# EAGLE library part AD7302BRZ (library 029000100  -  gKEagleLibrary)
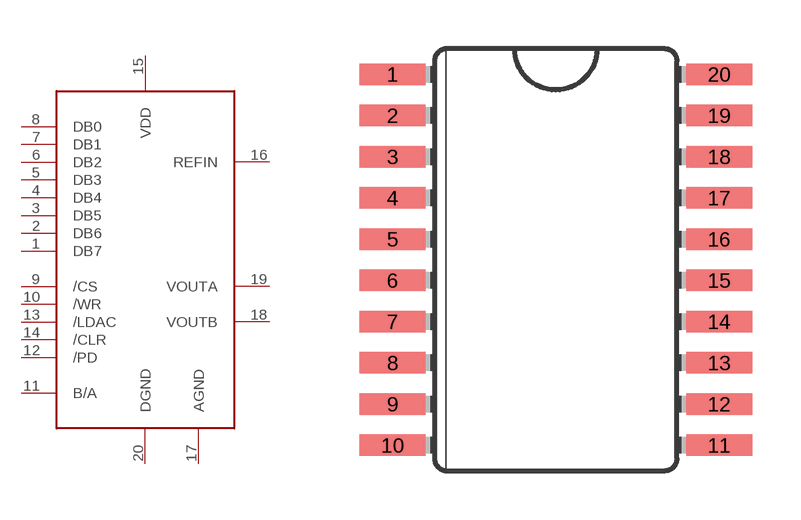
[diagram p14: symbol with the pads of SOIC20W; footprint SOIC20W]

Designator prefix -

## AD7302BRZ  [SOIC20W]
1  DB7
2  DB6
3  DB5
4  DB4
5  DB3
6  DB2
7  DB1
8  DB0
9  /CS
10  /WR
11  B/A
12  /PD
13  /LDAC
14  /CLR
15  VDD
16  REFIN
17  AGND
18  VOUTB
19  VOUTA
20  DGND

## Footprint SOIC20W (pad centres in mm)
smd 2.032 x 0.66: 1 -5.029,5.715; 2 -5.029,4.445; 3 -5.029,3.175; 4 -5.029,1.905; 5 -5.029,0.635; 6 -5.029,-0.635; 7 -5.029,-1.905; 8 -5.029,-3.175; 9 -5.029,-4.445; 10 -5.029,-5.715; 11 5.029,-5.715; 12 5.029,-4.445; 13 5.029,-3.175; 14 5.029,-1.905; 15 5.029,-0.635; 16 5.029,0.635; 17 5.029,1.905; 18 5.029,3.175; 19 5.029,4.445; 20 5.029,5.715